# EAGLE library part HMC2003 (library AS-2-Extras)
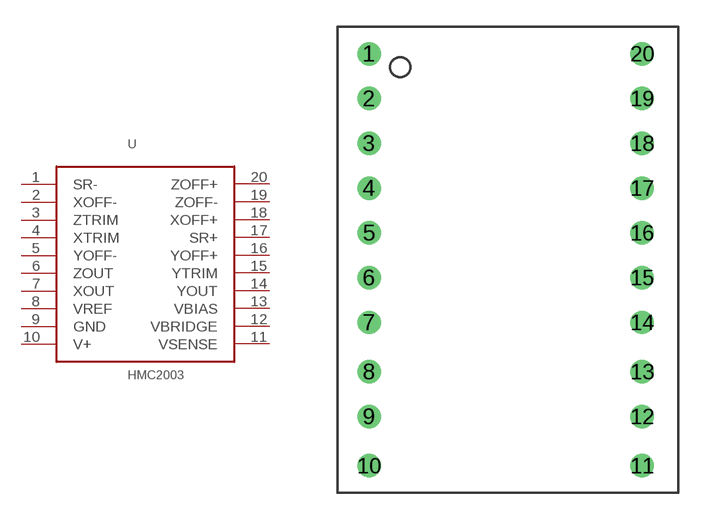
[diagram p2: symbol with the pads of HMC2003-DIP; footprint HMC2003-DIP]

Designator prefix -

## HMC2003  [HMC2003-DIP]
1  SR-
2  XOFF-
3  ZTRIM
4  XTRIM
5  YOFF-
6  ZOUT
7  XOUT
8  VREF
9  GND
10  V+
11  VSENSE
12  VBRIDGE
13  VBIAS
14  YOUT
15  YTRIM
16  YOFF+
17  SR+
18  XOFF+
19  ZOFF-
20  ZOFF+

## Footprint HMC2003-DIP (pad centres in mm)
drill 0.8: 1 -7.25,11.5; 2 -7.25,9; 3 -7.25,6.5; 4 -7.25,4; 5 -7.25,1.5; 6 -7.25,-1; 7 -7.25,-3.5; 8 -7.25,-6.25; 9 -7.25,-8.75; 10 -7.25,-11.5; 11 8,-11.5; 12 8,-8.75; 13 8,-6.25; 14 8,-3.5; 15 8,-1; 16 8,1.5; 17 8,4; 18 8,6.5; 19 8,9; 20 8,11.5